# Altium schematic symbol library Schlib_Milandr.SchLib: 13 symbols
Pins are listed as number, name and electrical type; pins without a type are passive.

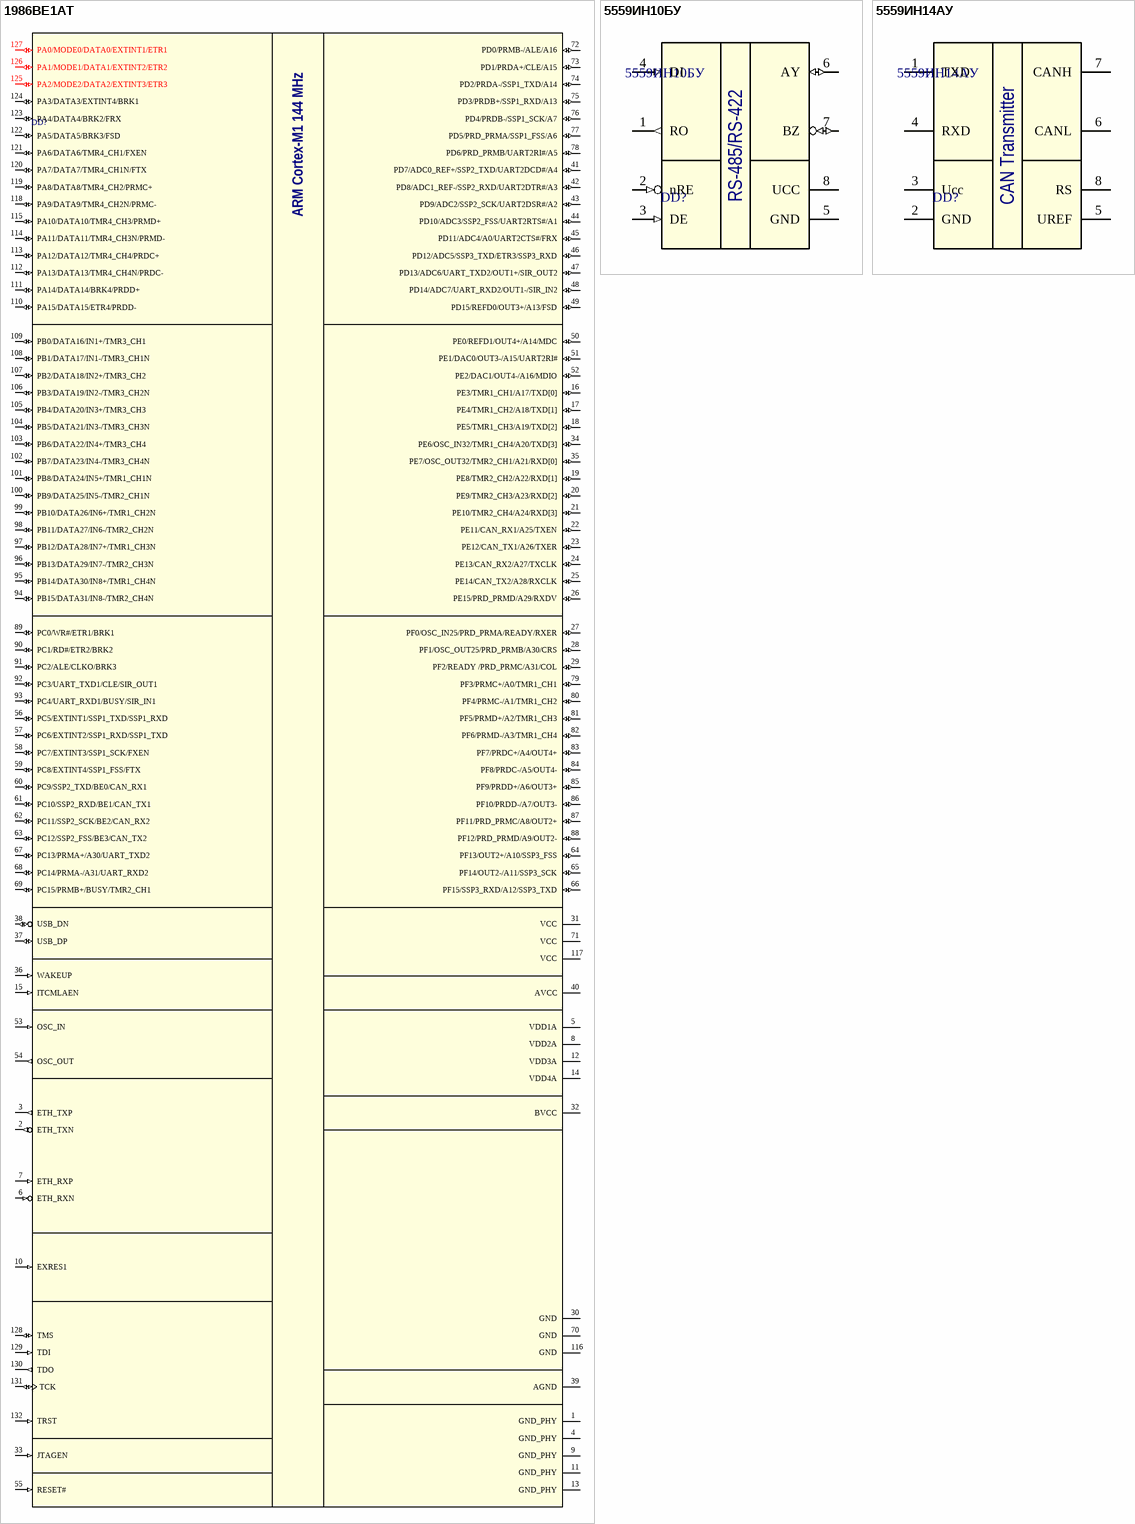
[diagram p0: symbols 1986ВЕ1АТ to 5559ИН14АУ]

## 1986ВЕ1АТ
designator DD?  (value not drawn)
Cortex-M1 based microcontroller, 144 MHz, 48KB RAM, 128KB Flash; Manufacturer: Milandr; Part Number: 1986ВЕ1АТ; Package: 4229.132-3; Author: Sklyarov
footprint 4229.132-3
pins: 1 GND_PHY (power), 2 ETH_TXN (out), 3 ETH_TXP (out), 4 GND_PHY (power), 5 VDD1A (power), 6 ETH_RXN (in), 7 ETH_RXP (in), 8 VDD2A (power), 9 GND_PHY (power), 10 EXRES1 (in), 11 GND_PHY (power), 12 VDD3A (power), 13 GND_PHY (power), 14 VDD4A (power), 15 ITCMLAEN (in), 16 PE3/TMR1_CH1/A17/TXD[0] (io), 17 PE4/TMR1_CH2/A18/TXD[1] (io), 18 PE5/TMR1_CH3/A19/TXD[2] (io), 19 PE8/TMR2_CH2/A22/RXD[1] (io), 20 PE9/TMR2_CH3/A23/RXD[2] (io), 21 PE10/TMR2_CH4/A24/RXD[3] (io), 22 PE11/CAN_RX1/A25/TXEN (io), 23 PE12/CAN_TX1/A26/TXER (io), 24 PE13/CAN_RX2/A27/TXCLK (io), 25 PE14/CAN_TX2/A28/RXCLK (io), 26 PE15/PRD_PRMD/A29/RXDV (io), 27 PF0/OSC_IN25/PRD_PRMA/READY/RXER (io), 28 PF1/OSC_OUT25/PRD_PRMB/A30/CRS (io), 29 PF2/READY /PRD_PRMC/A31/COL (io), 30 GND (power), 31 VCC (power), 32 BVCC (power), 33 JTAGEN (in), 34 PE6/OSC_IN32/TMR1_CH4/A20/TXD[3] (io), 35 PE7/OSC_OUT32/TMR2_CH1/A21/RXD[0] (io), 36 WAKEUP (in), 37 USB_DP (io), 38 USB_DN (io), 39 AGND (power), 40 AVCC (power), 41 PD7/ADC0_REF+/SSP2_TXD/UART2DCD#/A4 (io), 42 PD8/ADC1_REF-/SSP2_RXD/UART2DTR#/A3 (io), 43 PD9/ADC2/SSP2_SCK/UART2DSR#/A2 (io), 44 PD10/ADC3/SSP2_FSS/UART2RTS#/A1 (io), 45 PD11/ADC4/A0/UART2CTS#/FRX (io), 46 PD12/ADC5/SSP3_TXD/ETR3/SSP3_RXD (io), 47 PD13/ADC6/UART_TXD2/OUT1+/SIR_OUT2 (io), 48 PD14/ADC7/UART_RXD2/OUT1-/SIR_IN2 (io), 49 PD15/REFD0/OUT3+/A13/FSD (io), 50 PE0/REFD1/OUT4+/A14/MDC (io), 51 PE1/DAC0/OUT3-/A15/UART2RI# (io), 52 PE2/DAC1/OUT4-/A16/MDIO (io), 53 OSC_IN (in), 54 OSC_OUT (out), 55 RESET# (in), 56 PC5/EXTINT1/SSP1_TXD/SSP1_RXD (io), 57 PC6/EXTINT2/SSP1_RXD/SSP1_TXD (io), 58 PC7/EXTINT3/SSP1_SCK/FXEN (io), 59 PC8/EXTINT4/SSP1_FSS/FTX (io), 60 PC9/SSP2_TXD/BE0/CAN_RX1 (io), 61 PC10/SSP2_RXD/BE1/CAN_TX1 (io), 62 PC11/SSP2_SCK/BE2/CAN_RX2 (io), 63 PC12/SSP2_FSS/BE3/CAN_TX2 (io), 64 PF13/OUT2+/A10/SSP3_FSS (io), 65 PF14/OUT2-/A11/SSP3_SCK (io), 66 PF15/SSP3_RXD/A12/SSP3_TXD (io), 67 PC13/PRMA+/A30/UART_TXD2 (io), 68 PC14/PRMA-/A31/UART_RXD2 (io), 69 PC15/PRMB+/BUSY/TMR2_CH1 (io), 70 GND (power), 71 VCC (power), 72 PD0/PRMB-/ALE/A16 (io), 73 PD1/PRDA+/CLE/A15 (io), 74 PD2/PRDA-/SSP1_TXD/A14 (io), 75 PD3/PRDB+/SSP1_RXD/A13 (io), 76 PD4/PRDB-/SSP1_SCK/A7 (io), 77 PD5/PRD_PRMA/SSP1_FSS/A6 (io), 78 PD6/PRD_PRMB/UART2RI#/A5 (io), 79 PF3/PRMC+/A0/TMR1_CH1 (io), 80 PF4/PRMC-/A1/TMR1_CH2 (io), 81 PF5/PRMD+/A2/TMR1_CH3 (io), 82 PF6/PRMD-/A3/TMR1_CH4 (io), 83 PF7/PRDC+/A4/OUT4+ (io), 84 PF8/PRDC-/A5/OUT4- (io), 85 PF9/PRDD+/A6/OUT3+ (io), 86 PF10/PRDD-/A7/OUT3- (io), 87 PF11/PRD_PRMC/A8/OUT2+ (io), 88 PF12/PRD_PRMD/A9/OUT2- (io), 89 PC0/WR#/ETR1/BRK1 (io), 90 PC1/RD#/ETR2/BRK2 (io), 91 PC2/ALE/CLKO/BRK3 (io), 92 PC3/UART_TXD1/CLE/SIR_OUT1 (io), 93 PC4/UART_RXD1/BUSY/SIR_IN1 (io), 94 PB15/DATA31/IN8-/TMR2_CH4N (io), 95 PB14/DATA30/IN8+/TMR1_CH4N (io), 96 PB13/DATA29/IN7-/TMR2_CH3N (io), 97 PB12/DATA28/IN7+/TMR1_CH3N (io), 98 PB11/DATA27/IN6-/TMR2_CH2N (io), 99 PB10/DATA26/IN6+/TMR1_CH2N (io), 100 PB9/DATA25/IN5-/TMR2_CH1N (io), 101 PB8/DATA24/IN5+/TMR1_CH1N (io), 102 PB7/DATA23/IN4-/TMR3_CH4N (io), 103 PB6/DATA22/IN4+/TMR3_CH4 (io), 104 PB5/DATA21/IN3-/TMR3_CH3N (io), 105 PB4/DATA20/IN3+/TMR3_CH3 (io), 106 PB3/DATA19/IN2-/TMR3_CH2N (io), 107 PB2/DATA18/IN2+/TMR3_CH2 (io), 108 PB1/DATA17/IN1-/TMR3_CH1N (io), 109 PB0/DATA16/IN1+/TMR3_CH1 (io), 110 PA15/DATA15/ETR4/PRDD- (io), 111 PA14/DATA14/BRK4/PRDD+ (io), 112 PA13/DATA13/TMR4_CH4N/PRDC- (io), 113 PA12/DATA12/TMR4_CH4/PRDC+ (io), 114 PA11/DATA11/TMR4_CH3N/PRMD- (io), 115 PA10/DATA10/TMR4_CH3/PRMD+ (io), 116 GND (power), 117 VCC (power), 118 PA9/DATA9/TMR4_CH2N/PRMC- (io), 119 PA8/DATA8/TMR4_CH2/PRMC+ (io), 120 PA7/DATA7/TMR4_CH1N/FTX (io), 121 PA6/DATA6/TMR4_CH1/FXEN (io), 122 PA5/DATA5/BRK3/FSD (io), 123 PA4/DATA4/BRK2/FRX (io), 124 PA3/DATA3/EXTINT4/BRK1 (io), 125 PA2/MODE2/DATA2/EXTINT3/ETR3 (io), 126 PA1/MODE1/DATA1/EXTINT2/ETR2 (io), 127 PA0/MODE0/DATA0/EXTINT1/ETR1 (io), 128 TMS (io), 129 TDI (in), 130 TDO (out), 131 TCK (io), 132 TRST (in)
text: ARM Cortex-M1 144 MHz

## 5559ИН10БУ
designator DD?
RS-485/RS-422 Transmitter; Manufacturer: Milandr; Part Number: 5559ИН10БУ; Package: H02.8-1B; Author: Sklyarov
footprint H02.8-1B
pins: 1 RO (out), 2 nRE (in), 3 DE (in), 4 DI (in), 5 GND (power), 6 AY (io), 7 BZ (io), 8 UCC (power)
text: RS-485/RS-422

## 5559ИН14АУ
designator DD?
CAN Transmitter; Manufacturer: Milandr; Part Number: 5559ИН14АУ; Package: H02.8-1B; Author: Sklyarov
footprint H02.8-1B
pins: 1 TXD, 2 GND, 3 Ucc, 4 RXD, 5 UREF, 6 CANL, 7 CANH, 8 RS

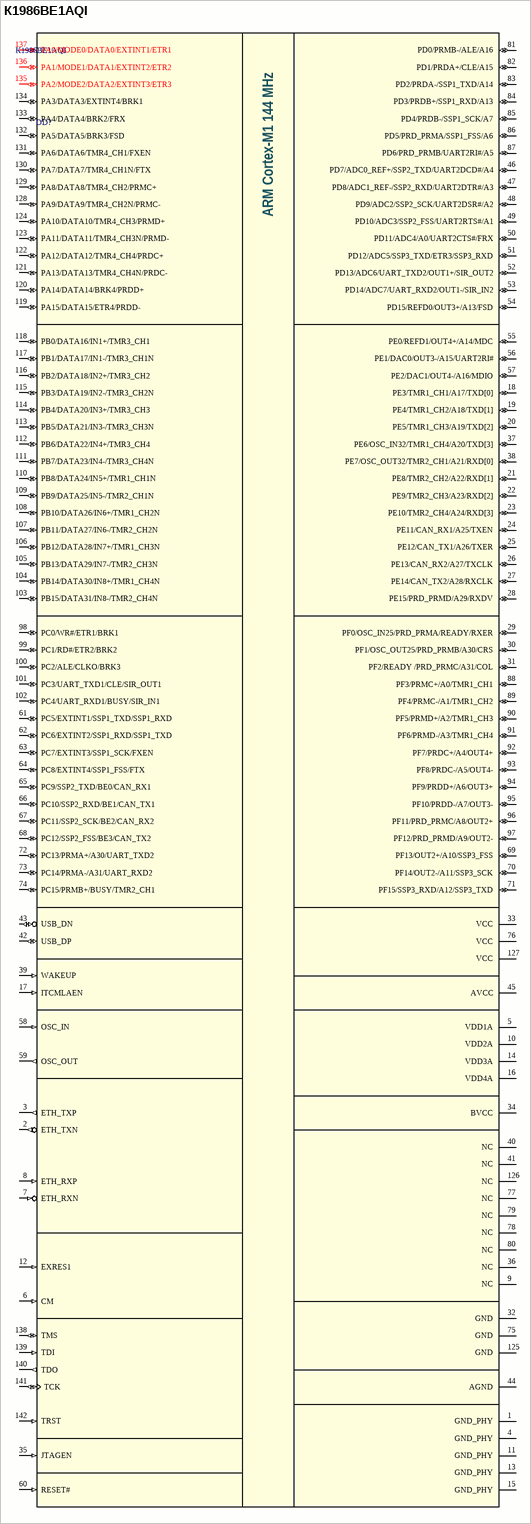
[diagram p1: symbol К1986ВЕ1АQI]

## К1986ВЕ1АQI
designator DD?
Cortex-M1 based microcontroller, 144 MHz, 48KB RAM, 128KB Flash; Manufacturer: Milandr; Part Number: К1986ВЕ1АQI; Package: LQFP-144; Author: Sklyarov
footprint LQFP-144 (TSQFP, 144-Leads, Body 20,00x20,00mm, Pitch 0,50mm, IPC Medium Density)
pins: 1 GND_PHY (power), 2 ETH_TXN (out), 3 ETH_TXP (out), 4 GND_PHY (power), 5 VDD1A (power), 6 CM (in), 7 ETH_RXN (in), 8 ETH_RXP (in), 9 NC (hiz), 10 VDD2A (power), 11 GND_PHY (power), 12 EXRES1 (in), 13 GND_PHY (power), 14 VDD3A (power), 15 GND_PHY (power), 16 VDD4A (power), 17 ITCMLAEN (in), 18 PE3/TMR1_CH1/A17/TXD[0] (io), 19 PE4/TMR1_CH2/A18/TXD[1] (io), 20 PE5/TMR1_CH3/A19/TXD[2] (io), 21 PE8/TMR2_CH2/A22/RXD[1] (io), 22 PE9/TMR2_CH3/A23/RXD[2] (io), 23 PE10/TMR2_CH4/A24/RXD[3] (io), 24 PE11/CAN_RX1/A25/TXEN (io), 25 PE12/CAN_TX1/A26/TXER (io), 26 PE13/CAN_RX2/A27/TXCLK (io), 27 PE14/CAN_TX2/A28/RXCLK (io), 28 PE15/PRD_PRMD/A29/RXDV (io), 29 PF0/OSC_IN25/PRD_PRMA/READY/RXER (io), 30 PF1/OSC_OUT25/PRD_PRMB/A30/CRS (io), 31 PF2/READY /PRD_PRMC/A31/COL (io), 32 GND (power), 33 VCC (power), 34 BVCC (power), 35 JTAGEN (in), 36 NC (hiz), 37 PE6/OSC_IN32/TMR1_CH4/A20/TXD[3] (io), 38 PE7/OSC_OUT32/TMR2_CH1/A21/RXD[0] (io), 39 WAKEUP (in), 40 NC (hiz), 41 NC (hiz), 42 USB_DP (io), 43 USB_DN (io), 44 AGND (power), 45 AVCC (power), 46 PD7/ADC0_REF+/SSP2_TXD/UART2DCD#/A4 (io), 47 PD8/ADC1_REF-/SSP2_RXD/UART2DTR#/A3 (io), 48 PD9/ADC2/SSP2_SCK/UART2DSR#/A2 (io), 49 PD10/ADC3/SSP2_FSS/UART2RTS#/A1 (io), 50 PD11/ADC4/A0/UART2CTS#/FRX (io), 51 PD12/ADC5/SSP3_TXD/ETR3/SSP3_RXD (io), 52 PD13/ADC6/UART_TXD2/OUT1+/SIR_OUT2 (io), 53 PD14/ADC7/UART_RXD2/OUT1-/SIR_IN2 (io), 54 PD15/REFD0/OUT3+/A13/FSD (io), 55 PE0/REFD1/OUT4+/A14/MDC (io), 56 PE1/DAC0/OUT3-/A15/UART2RI# (io), 57 PE2/DAC1/OUT4-/A16/MDIO (io), 58 OSC_IN (in), 59 OSC_OUT (out), 60 RESET# (in), 61 PC5/EXTINT1/SSP1_TXD/SSP1_RXD (io), 62 PC6/EXTINT2/SSP1_RXD/SSP1_TXD (io), 63 PC7/EXTINT3/SSP1_SCK/FXEN (io), 64 PC8/EXTINT4/SSP1_FSS/FTX (io), 65 PC9/SSP2_TXD/BE0/CAN_RX1 (io), 66 PC10/SSP2_RXD/BE1/CAN_TX1 (io), 67 PC11/SSP2_SCK/BE2/CAN_RX2 (io), 68 PC12/SSP2_FSS/BE3/CAN_TX2 (io), 69 PF13/OUT2+/A10/SSP3_FSS (io), 70 PF14/OUT2-/A11/SSP3_SCK (io), 71 PF15/SSP3_RXD/A12/SSP3_TXD (io), 72 PC13/PRMA+/A30/UART_TXD2 (io), 73 PC14/PRMA-/A31/UART_RXD2 (io), 74 PC15/PRMB+/BUSY/TMR2_CH1 (io), 75 GND (power), 76 VCC (power), 77 NC (hiz), 78 NC (hiz), 79 NC (hiz), 80 NC (hiz), 81 PD0/PRMB-/ALE/A16 (io), 82 PD1/PRDA+/CLE/A15 (io), 83 PD2/PRDA-/SSP1_TXD/A14 (io), 84 PD3/PRDB+/SSP1_RXD/A13 (io), 85 PD4/PRDB-/SSP1_SCK/A7 (io), 86 PD5/PRD_PRMA/SSP1_FSS/A6 (io), 87 PD6/PRD_PRMB/UART2RI#/A5 (io), 88 PF3/PRMC+/A0/TMR1_CH1 (io), 89 PF4/PRMC-/A1/TMR1_CH2 (io), 90 PF5/PRMD+/A2/TMR1_CH3 (io), 91 PF6/PRMD-/A3/TMR1_CH4 (io), 92 PF7/PRDC+/A4/OUT4+ (io), 93 PF8/PRDC-/A5/OUT4- (io), 94 PF9/PRDD+/A6/OUT3+ (io), 95 PF10/PRDD-/A7/OUT3- (io), 96 PF11/PRD_PRMC/A8/OUT2+ (io), 97 PF12/PRD_PRMD/A9/OUT2- (io), 98 PC0/WR#/ETR1/BRK1 (io), 99 PC1/RD#/ETR2/BRK2 (io), 100 PC2/ALE/CLKO/BRK3 (io), 101 PC3/UART_TXD1/CLE/SIR_OUT1 (io), 102 PC4/UART_RXD1/BUSY/SIR_IN1 (io), 103 PB15/DATA31/IN8-/TMR2_CH4N (io), 104 PB14/DATA30/IN8+/TMR1_CH4N (io), 105 PB13/DATA29/IN7-/TMR2_CH3N (io), 106 PB12/DATA28/IN7+/TMR1_CH3N (io), 107 PB11/DATA27/IN6-/TMR2_CH2N (io), 108 PB10/DATA26/IN6+/TMR1_CH2N (io), 109 PB9/DATA25/IN5-/TMR2_CH1N (io), 110 PB8/DATA24/IN5+/TMR1_CH1N (io), 111 PB7/DATA23/IN4-/TMR3_CH4N (io), 112 PB6/DATA22/IN4+/TMR3_CH4 (io), 113 PB5/DATA21/IN3-/TMR3_CH3N (io), 114 PB4/DATA20/IN3+/TMR3_CH3 (io), 115 PB3/DATA19/IN2-/TMR3_CH2N (io), 116 PB2/DATA18/IN2+/TMR3_CH2 (io), 117 PB1/DATA17/IN1-/TMR3_CH1N (io), 118 PB0/DATA16/IN1+/TMR3_CH1 (io), 119 PA15/DATA15/ETR4/PRDD- (io), 120 PA14/DATA14/BRK4/PRDD+ (io), 121 PA13/DATA13/TMR4_CH4N/PRDC- (io), 122 PA12/DATA12/TMR4_CH4/PRDC+ (io), 123 PA11/DATA11/TMR4_CH3N/PRMD- (io), 124 PA10/DATA10/TMR4_CH3/PRMD+ (io), 125 GND (power), 126 NC (hiz), 127 VCC (power), 128 PA9/DATA9/TMR4_CH2N/PRMC- (io), 129 PA8/DATA8/TMR4_CH2/PRMC+ (io), 130 PA7/DATA7/TMR4_CH1N/FTX (io), 131 PA6/DATA6/TMR4_CH1/FXEN (io), 132 PA5/DATA5/BRK3/FSD (io), 133 PA4/DATA4/BRK2/FRX (io), 134 PA3/DATA3/EXTINT4/BRK1 (io), 135 PA2/MODE2/DATA2/EXTINT3/ETR3 (io), 136 PA1/MODE1/DATA1/EXTINT2/ETR2 (io), 137 PA0/MODE0/DATA0/EXTINT1/ETR1 (io), 138 TMS (io), 139 TDI (in), 140 TDO (out), 141 TCK (io), 142 TRST (in)
text: ARM Cortex-M1 144 MHz

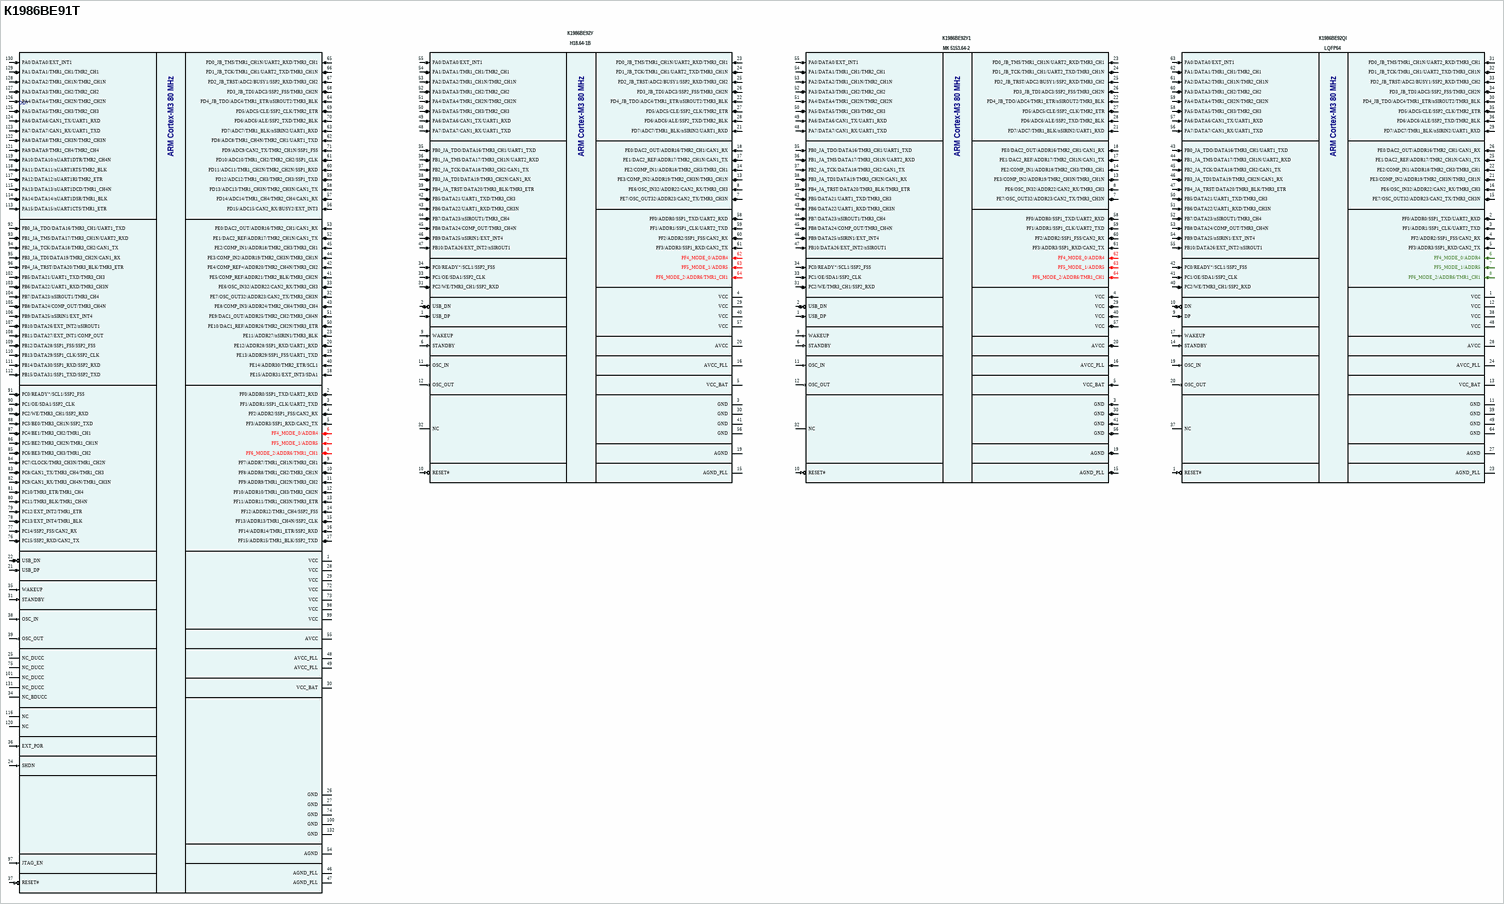
[diagram p2: symbol К1986ВЕ91Т]

## К1986ВЕ91Т
designator DD?  (value not drawn)
Cortex-M3 based microcontroller, 80 MHz, 32KB RAM, 128KB Flash; Manufacturer: Milandr; Part Number: К1986ВЕ91Т; Package: 4229.132-3; Author: Sklyarov
footprint 4229.132-3
pins: 1 VCC (power), 1 USB_DP (io), 1 USB_DP (io), 1 RESET# (in), 1 VCC (power), 2 PF0/ADDR0/SSP1_TXD/UART2_RXD (io), 2 USB_DN (io), 2 USB_DN (io), 2 PF0/ADDR0/SSP1_TXD/UART2_RXD (io), 3 PF1/ADDR1/SSP1_CLK/UART2_TXD (io), 3 GND (power), 3 GND (io), 3 PF1/ADDR1/SSP1_CLK/UART2_TXD (io), 4 PF2/ADDR2/SSP1_FSS/CAN2_RX (io), 4 VCC (power), 4 VCC (io), 4 PF2/ADDR2/SSP1_FSS/CAN2_RX (io), 5 PF3/ADDR3/SSP1_RXD/CAN2_TX (io), 5 VCC_BAT (power), 5 VCC_BAT (io), 5 PF3/ADDR3/SSP1_RXD/CAN2_TX (io), 6 PF4_MODE_0/ADDR4 (io), 6 STANDBY (in), 6 STANDBY (in), 6 PF4_MODE_0/ADDR4 (io), 7 PF5_MODE_1/ADDR5 (io), 7 PE7/OSC_OUT32/ADDR23/CAN2_TX/TMR3_CH3N (io), 7 PE7/OSC_OUT32/ADDR23/CAN2_TX/TMR3_CH3N (io), 7 PF5_MODE_1/ADDR5 (io), 8 PF6_MODE_2/ADDR6/TMR1_CH1 (io), 8 PE6/OSC_IN32/ADDR22/CAN2_RX/TMR3_CH3 (io), 8 PE6/OSC_IN32/ADDR22/CAN2_RX/TMR3_CH3 (io), 8 PF6_MODE_2/ADDR6/TMR1_CH1 (io), 9 PF7/ADDR7/TMR1_CH1N/TMR3_CH1 (io), 9 WAKEUP (in), 9 WAKEUP (in), 9 DP (io), 10 PF8/ADDR8/TMR1_CH2/TMR3_CH1N (io), 10 RESET# (in), 10 RESET# (in), 10 DN (io), 11 PF9/ADDR9/TMR1_CH2N/TMR3_CH2 (io), 11 OSC_IN (in), 11 OSC_IN (in), 11 GND (power), 12 PF10/ADDR10/TMR1_CH3/TMR3_CH2N (io), 12 OSC_OUT (out), 12 OSC_OUT (out), 12 VCC (power), 13 PF11/ADDR11/TMR1_CH3N/TMR3_ETR (io), 13 PE3/COMP_IN2/ADDR19/TMR2_CH3N/TMR3_CH1N (io), 13 PE3/COMP_IN2/ADDR19/TMR2_CH3N/TMR3_CH1N (io), 13 VCC_BAT (power), 14 PF12/ADDR12/TMR1_CH4/SSP2_FSS (io), 14 PE2/COMP_IN1/ADDR18/TMR2_CH3/TMR3_CH1 (io), 14 PE2/COMP_IN1/ADDR18/TMR2_CH3/TMR3_CH1 (io), 14 STANDBY (in), 15 PF13/ADDR13/TMR1_CH4N/SSP2_CLK (io), 15 AGND_PLL (power), 15 AGND_PLL (io), 15 PE7/OSC_OUT32/ADDR23/CAN2_TX/TMR3_CH3N (io), 16 PF14/ADDR14/TMR1_ETR/SSP2_RXD (io), 16 AVCC_PLL (power), 16 AVCC_PLL (io), 16 PE6/OSC_IN32/ADDR22/CAN2_RX/TMR3_CH3 (io), 17 PF15/ADDR15/TMR1_BLK/SSP2_TXD (io), 17 PE1/DAC2_REF/ADDR17/TMR2_CH1N/CAN1_TX (io), 17 PE1/DAC2_REF/ADDR17/TMR2_CH1N/CAN1_TX (io), 17 WAKEUP (in), 18 PE15/ADDR31/EXT_INT3/SDA1 (io), 18 PE0/DAC2_OUT/ADDR16/TMR2_CH1/CAN1_RX (io), 18 PE0/DAC2_OUT/ADDR16/TMR2_CH1/CAN1_RX (io), 19 PE13/ADDR29/SSP1_FSS/UART1_TXD (io), 19 AGND (power), 19 AGND (io), 19 OSC_IN (in), 20 PE12/ADDR28/SSP1_RXD/UART1_RXD (io), 20 AVCC (power), 20 AVCC (io), 20 OSC_OUT (out), 21 USB_DP (io), 21 PD7/ADC7/TMR1_BLK/nSIRIN2/UART1_RXD (io), 21 PD7/ADC7/TMR1_BLK/nSIRIN2/UART1_RXD (io), 21 PE3/COMP_IN2/ADDR19/TMR2_CH3N/TMR3_CH1N (io), 22 USB_DN (io), 22 PD4_JB_TDO/ADC4/TMR1_ETR/nSIROUT2/TMR3_BLK (io), 22 PD4_JB_TDO/ADC4/TMR1_ETR/nSIROUT2/TMR3_BLK (io), 22 PE2/COMP_IN1/ADDR18/TMR2_CH3/TMR3_CH1 (io), 23 PE11/ADDR27/nSIRIN1/TMR3_BLK (io), 23 PD0_JB_TMS/TMR1_CH1N/UART2_RXD/TMR3_CH1 (io), 23 PD0_JB_TMS/TMR1_CH1N/UART2_RXD/TMR3_CH1 (io), 23 AGND_PLL (power), 24 SHDN (in), 24 PD1_JB_TCK/TMR1_CH1/UART2_TXD/TMR3_CH1N (io), 24 PD1_JB_TCK/TMR1_CH1/UART2_TXD/TMR3_CH1N (io), 24 AVCC_PLL (power), 25 NC_DUCC (hiz), 25 PD2_JB_TRST/ADC2/BUSY1/SSP2_RXD/TMR3_CH2 (io), 25 PD2_JB_TRST/ADC2/BUSY1/SSP2_RXD/TMR3_CH2 (io), 25 PE1/DAC2_REF/ADDR17/TMR2_CH1N/CAN1_TX (io), 26 GND (power), 26 PD3_JB_TDI/ADC3/SSP2_FSS/TMR3_CH2N (io), 26 PD3_JB_TDI/ADC3/SSP2_FSS/TMR3_CH2N (io), 26 PE0/DAC2_OUT/ADDR16/TMR2_CH1/CAN1_RX (io), 27 GND (power), 27 PD5/ADC5/CLE/SSP2_CLK/TMR2_ETR (io), 27 PD5/ADC5/CLE/SSP2_CLK/TMR2_ETR (io), 27 AGND (power), 28 VCC (power), 28 PD6/ADC6/ALE/SSP2_TXD/TMR2_BLK (io), 28 PD6/ADC6/ALE/SSP2_TXD/TMR2_BLK (io), 28 AVCC (power), 29 VCC (power), 29 VCC (power), 29 VCC (io), 29 PD7/ADC7/TMR1_BLK/nSIRIN2/UART1_RXD (io), 30 VCC_BAT (power), 30 GND (power), 30 GND (io), 30 PD4_JB_TDO/ADC4/TMR1_ETR/nSIROUT2/TMR3_BLK (io), 31 STANDBY (in), 31 PC2/WE/TMR3_CH1/SSP2_RXD (io), 31 PC2/WE/TMR3_CH1/SSP2_RXD (io), 31 PD0_JB_TMS/TMR1_CH1N/UART2_RXD/TMR3_CH1 (io), 32 PE7/OSC_OUT32/ADDR23/CAN2_TX/TMR3_CH3N (io), 32 NC (hiz), 32 NC (hiz), 32 PD1_JB_TCK/TMR1_CH1/UART2_TXD/TMR3_CH1N (io), 33 PE6/OSC_IN32/ADDR22/CAN2_RX/TMR3_CH3 (io), 33 PC1/OE/SDA1/SSP2_CLK (io), 33 PC1/OE/SDA1/SSP2_CLK (io), 33 PD2_JB_TRST/ADC2/BUSY1/SSP2_RXD/TMR3_CH2 (io), 34 NC_BDUCC (hiz), 34 PC0/READY*/SCL1/SSP2_FSS (io), 34 PC0/READY*/SCL1/SSP2_FSS (io), 34 PD3_JB_TDI/ADC3/SSP2_FSS/TMR3_CH2N (io), 35 WAKEUP (in), 35 PB0_JA_TDO/DATA16/TMR3_CH1/UART1_TXD (io), 35 PB0_JA_TDO/DATA16/TMR3_CH1/UART1_TXD (io), 35 PD5/ADC5/CLE/SSP2_CLK/TMR2_ETR (io), 36 EXT_POR (in), 36 PB1_JA_TMS/DATA17/TMR3_CH1N/UART2_RXD (io), 36 PB1_JA_TMS/DATA17/TMR3_CH1N/UART2_RXD (io), 36 PD6/ADC6/ALE/SSP2_TXD/TMR2_BLK (io), 37 RESET# (in), 37 PB2_JA_TCK/DATA18/TMR3_CH2/CAN1_TX (io), 37 PB2_JA_TCK/DATA18/TMR3_CH2/CAN1_TX (io), 37 NC (hiz), 38 OSC_IN (in), 38 PB3_JA_TDI/DATA19/TMR3_CH2N/CAN1_RX (io), 38 PB3_JA_TDI/DATA19/TMR3_CH2N/CAN1_RX (io), 38 VCC (power), 39 OSC_OUT (out), 39 PB4_JA_TRST/DATA20/TMR3_BLK/TMR3_ETR (io), 39 PB4_JA_TRST/DATA20/TMR3_BLK/TMR3_ETR (io), 39 GND (power), 40 PE14/ADDR30/TMR2_ETR/SCL1 (io), 40 VCC (power), 40 VCC (io), 40 PC2/WE/TMR3_CH1/SSP2_RXD (io), 41 PE5/COMP_REF/ADDR21/TMR2_BLK/TMR3_CH2N (io), 41 GND (power), 41 GND (io), 41 PC1/OE/SDA1/SSP2_CLK (io), 42 PE4/COMP_REF+/ADDR20/TMR2_CH4N/TMR3_CH2 (io), 42 PB5/DATA21/UART1_TXD/TMR3_CH3 (io), 42 PB5/DATA21/UART1_TXD/TMR3_CH3 (io), 42 PC0/READY*/SCL1/SSP2_FSS (io), 43 PE8/COMP_IN3/ADDR24/TMR2_CH4/TMR3_CH4 (io), 43 PB6/DATA22/UART1_RXD/TMR3_CH3N (io), 43 PB6/DATA22/UART1_RXD/TMR3_CH3N (io), 43 PB0_JA_TDO/DATA16/TMR3_CH1/UART1_TXD (io), 44 PE3/COMP_IN2/ADDR19/TMR2_CH3N/TMR3_CH1N (io), 44 PB7/DATA23/nSIROUT1/TMR3_CH4 (io), 44 PB7/DATA23/nSIROUT1/TMR3_CH4 (io), 44 PB1_JA_TMS/DATA17/TMR3_CH1N/UART2_RXD (io), 45 PE2/COMP_IN1/ADDR18/TMR2_CH3/TMR3_CH1 (io), 45 PB8/DATA24/COMP_OUT/TMR3_CH4N (io), 45 PB8/DATA24/COMP_OUT/TMR3_CH4N (io), 45 PB2_JA_TCK/DATA18/TMR3_CH2/CAN1_TX (io), 46 AGND_PLL (power), 46 PB9/DATA25/nSIRIN1/EXT_INT4 (io), 46 PB9/DATA25/nSIRIN1/EXT_INT4 (io), 46 PB3_JA_TDI/DATA19/TMR3_CH2N/CAN1_RX (io), 47 AGND_PLL (power), 47 PB10/DATA26/EXT_INT2/nSIROUT1 (io), 47 PB10/DATA26/EXT_INT2/nSIROUT1 (io), 47 PB4_JA_TRST/DATA20/TMR3_BLK/TMR3_ETR (io), 48 AVCC_PLL (power), 48 PA7/DATA7/CAN1_RX/UART1_TXD (io), 48 PA7/DATA7/CAN1_RX/UART1_TXD (io), 48 VCC (power), 49 AVCC_PLL (power), 49 PA6/DATA6/CAN1_TX/UART1_RXD (io), 49 PA6/DATA6/CAN1_TX/UART1_RXD (io), 49 GND (power), 50 PE10/DAC1_REF/ADDR26/TMR2_CH2N/TMR3_ETR (io), 50 PA5/DATA5/TMR1_CH3/TMR2_CH3 (io), 50 PA5/DATA5/TMR1_CH3/TMR2_CH3 (io), 50 PB5/DATA21/UART1_TXD/TMR3_CH3 (io), 51 PE9/DAC1_OUT/ADDR25/TMR2_CH2/TMR3_CH4N (io), 51 PA4/DATA4/TMR1_CH2N/TMR2_CH2N (io), 51 PA4/DATA4/TMR1_CH2N/TMR2_CH2N (io), 51 PB6/DATA22/UART1_RXD/TMR3_CH3N (io), 52 PE1/DAC2_REF/ADDR17/TMR2_CH1N/CAN1_TX (io), 52 PA3/DATA3/TMR1_CH2/TMR2_CH2 (io), 52 PA3/DATA3/TMR1_CH2/TMR2_CH2 (io), 52 PB7/DATA23/nSIROUT1/TMR3_CH4 (io), 53 PE0/DAC2_OUT/ADDR16/TMR2_CH1/CAN1_RX (io), 53 PA2/DATA2/TMR1_CH1N/TMR2_CH1N (io), 53 PA2/DATA2/TMR1_CH1N/TMR2_CH1N (io), 53 PB8/DATA24/COMP_OUT/TMR3_CH4N (io), 54 AGND (power), 54 PA1/DATA1/TMR1_CH1/TMR2_CH1 (io), 54 PA1/DATA1/TMR1_CH1/TMR2_CH1 (io), 54 PB9/DATA25/nSIRIN1/EXT_INT4 (io), 55 AVCC (power), 55 PA0/DATA0/EXT_INT1 (io), 55 PA0/DATA0/EXT_INT1 (io), 55 PB10/DATA26/EXT_INT2/nSIROUT1 (io), 56 PD15/ADC15/CAN2_RX/BUSY2/EXT_INT3 (io), 56 GND (power), 56 GND (io), 56 PA7/DATA7/CAN1_RX/UART1_TXD (io), 57 PD14/ADC14/TMR1_CH4/TMR2_CH4/CAN1_RX (io), 57 VCC (power), 57 VCC (io), 57 PA6/DATA6/CAN1_TX/UART1_RXD (io), 58 PD13/ADC13/TMR1_CH3N/TMR2_CH3N/CAN1_TX (io), 58 PF0/ADDR0/SSP1_TXD/UART2_RXD (io), 58 PF0/ADDR0/SSP1_TXD/UART2_RXD (io), 58 PA5/DATA5/TMR1_CH3/TMR2_CH3 (io), 59 PD12/ADC12/TMR1_CH3/TMR2_CH3/SSP1_TXD (io), 59 PF1/ADDR1/SSP1_CLK/UART2_TXD (io), 59 PF1/ADDR1/SSP1_CLK/UART2_TXD (io), 59 PA4/DATA4/TMR1_CH2N/TMR2_CH2N (io), 60 PD11/ADC11/TMR1_CH2N/TMR2_CH2N/SSP1_RXD (io), 60 PF2/ADDR2/SSP1_FSS/CAN2_RX (io), 60 PF2/ADDR2/SSP1_FSS/CAN2_RX (io), 60 PA3/DATA3/TMR1_CH2/TMR2_CH2 (io), 61 PD10/ADC10/TMR1_CH2/TMR2_CH2/SSP1_CLK (io), 61 PF3/ADDR3/SSP1_RXD/CAN2_TX (io), 61 PF3/ADDR3/SSP1_RXD/CAN2_TX (io), 61 PA2/DATA2/TMR1_CH1N/TMR2_CH1N (io), 62 PD8/ADC8/TMR1_CH4N/TMR2_CH1/UART1_TXD (io), 62 PF4_MODE_0/ADDR4 (io), 62 PF4_MODE_0/ADDR4 (io), 62 PA1/DATA1/TMR1_CH1/TMR2_CH1 (io), 63 PD7/ADC7/TMR1_BLK/nSIRIN2/UART1_RXD (io), 63 PF5_MODE_1/ADDR5 (io), 63 PF5_MODE_1/ADDR5 (io), 63 PA0/DATA0/EXT_INT1 (io), 64 PD4_JB_TDO/ADC4/TMR1_ETR/nSIROUT2/TMR3_BLK (io), 64 PF6_MODE_2/ADDR6/TMR1_CH1 (io), 64 PF6_MODE_2/ADDR6/TMR1_CH1 (io), 64 GND (power), 65 PD0_JB_TMS/TMR1_CH1N/UART2_RXD/TMR3_CH1 (io), 66 PD1_JB_TCK/TMR1_CH1/UART2_TXD/TMR3_CH1N (io), 67 PD2_JB_TRST/ADC2/BUSY1/SSP2_RXD/TMR3_CH2 (io), 68 PD3_JB_TDI/ADC3/SSP2_FSS/TMR3_CH2N (io), 69 PD5/ADC5/CLE/SSP2_CLK/TMR2_ETR (io), 70 PD6/ADC6/ALE/SSP2_TXD/TMR2_BLK (io), 71 PD9/ADC9/CAN2_TX/TMR2_CH1N/SSP1_FSS (io), 72 VCC (power), 73 VCC (power), 74 GND (power), 75 NC_DUCC (hiz), 76 PC15/SSP2_RXD/CAN2_TX (io), 77 PC14/SSP2_FSS/CAN2_RX (io), 78 PC13/EXT_INT4/TMR1_BLK (io), 79 PC12/EXT_INT2/TMR1_ETR (io), 80 PC11/TMR3_BLK/TMR1_CH4N (io), 81 PC10/TMR3_ETR/TMR1_CH4 (io), 82 PC9/CAN1_RX/TMR3_CH4N/TMR1_CH3N (io), 83 PC8/CAN1_TX/TMR3_CH4/TMR1_CH3 (io), 84 PC7/CLOCK/TMR3_CH3N/TMR1_CH2N (io), 85 PC6/BE3/TMR3_CH3/TMR1_CH2 (io), 86 PC5/BE2/TMR3_CH2N/TMR1_CH1N (io), 87 PC4/BE1/TMR3_CH2/TMR1_CH1 (io), 88 PC3/BE0/TMR3_CH1N/SSP2_TXD (io), 89 PC2/WE/TMR3_CH1/SSP2_RXD (io), 90 PC1/OE/SDA1/SSP2_CLK (io), 91 PC0/READY*/SCL1/SSP2_FSS (io), 92 PB0_JA_TDO/DATA16/TMR3_CH1/UART1_TXD (io), 93 PB1_JA_TMS/DATA17/TMR3_CH1N/UART2_RXD (io), 94 PB2_JA_TCK/DATA18/TMR3_CH2/CAN1_TX (io), 95 PB3_JA_TDI/DATA19/TMR3_CH2N/CAN1_RX (io), 96 PB4_JA_TRST/DATA20/TMR3_BLK/TMR3_ETR (io), 97 JTAG_EN (in), 98 VCC (power), 99 VCC (power), 100 GND (power), 101 NC_DUCC (hiz), 102 PB5/DATA21/UART1_TXD/TMR3_CH3 (io), 103 PB6/DATA22/UART1_RXD/TMR3_CH3N (io), 104 PB7/DATA23/nSIROUT1/TMR3_CH4 (io), 105 PB8/DATA24/COMP_OUT/TMR3_CH4N (io), 106 PB9/DATA25/nSIRIN1/EXT_INT4 (io), 107 PB10/DATA26/EXT_INT2/nSIROUT1 (io), 108 PB11/DATA27/EXT_INT1/COMP_OUT (io), 109 PB12/DATA28/SSP1_FSS/SSP2_FSS (io), 110 PB13/DATA29/SSP1_CLK/SSP2_CLK (io), 111 PB14/DATA30/SSP1_RXD/SSP2_RXD (io), 112 PB15/DATA31/SSP1_TXD/SSP2_TXD (io), 113 PA15/DATA15/nUART1CTS/TMR1_ETR (io), 114 PA14/DATA14/nUART1DSR/TMR1_BLK (io), 115 PA13/DATA13/nUART1DCD/TMR1_CH4N (io), 116 NC (hiz), 117 PA12/DATA12/nUART1RI/TMR2_ETR (io), 118 PA11/DATA11/nUART1RTS/TMR2_BLK (io), 119 PA10/DATA10/nUART1DTR/TMR2_CH4N (io), 120 NC (hiz), 121 PA9/DATA9/TMR1_CH4/TMR2_CH4 (io), 122 PA8/DATA8/TMR1_CH3N/TMR2_CH3N (io), 123 PA7/DATA7/CAN1_RX/UART1_TXD (io), 124 PA6/DATA6/CAN1_TX/UART1_RXD (io), 125 PA5/DATA5/TMR1_CH3/TMR2_CH3 (io), 126 PA4/DATA4/TMR1_CH2N/TMR2_CH2N (io), 127 PA3/DATA3/TMR1_CH2/TMR2_CH2 (io), 128 PA2/DATA2/TMR1_CH1N/TMR2_CH1N (io), 129 PA1/DATA1/TMR1_CH1/TMR2_CH1 (io), 130 PA0/DATA0/EXT_INT1 (io), 131 NC_DUCC (hiz), 132 GND (power)
text: К1986ВЕ92У; К1986ВЕ92У1; К1986ВЕ92QI; H18.64-1В; МК 5153.64-2; LQFP64; ARM Cortex-M3 80 MHz

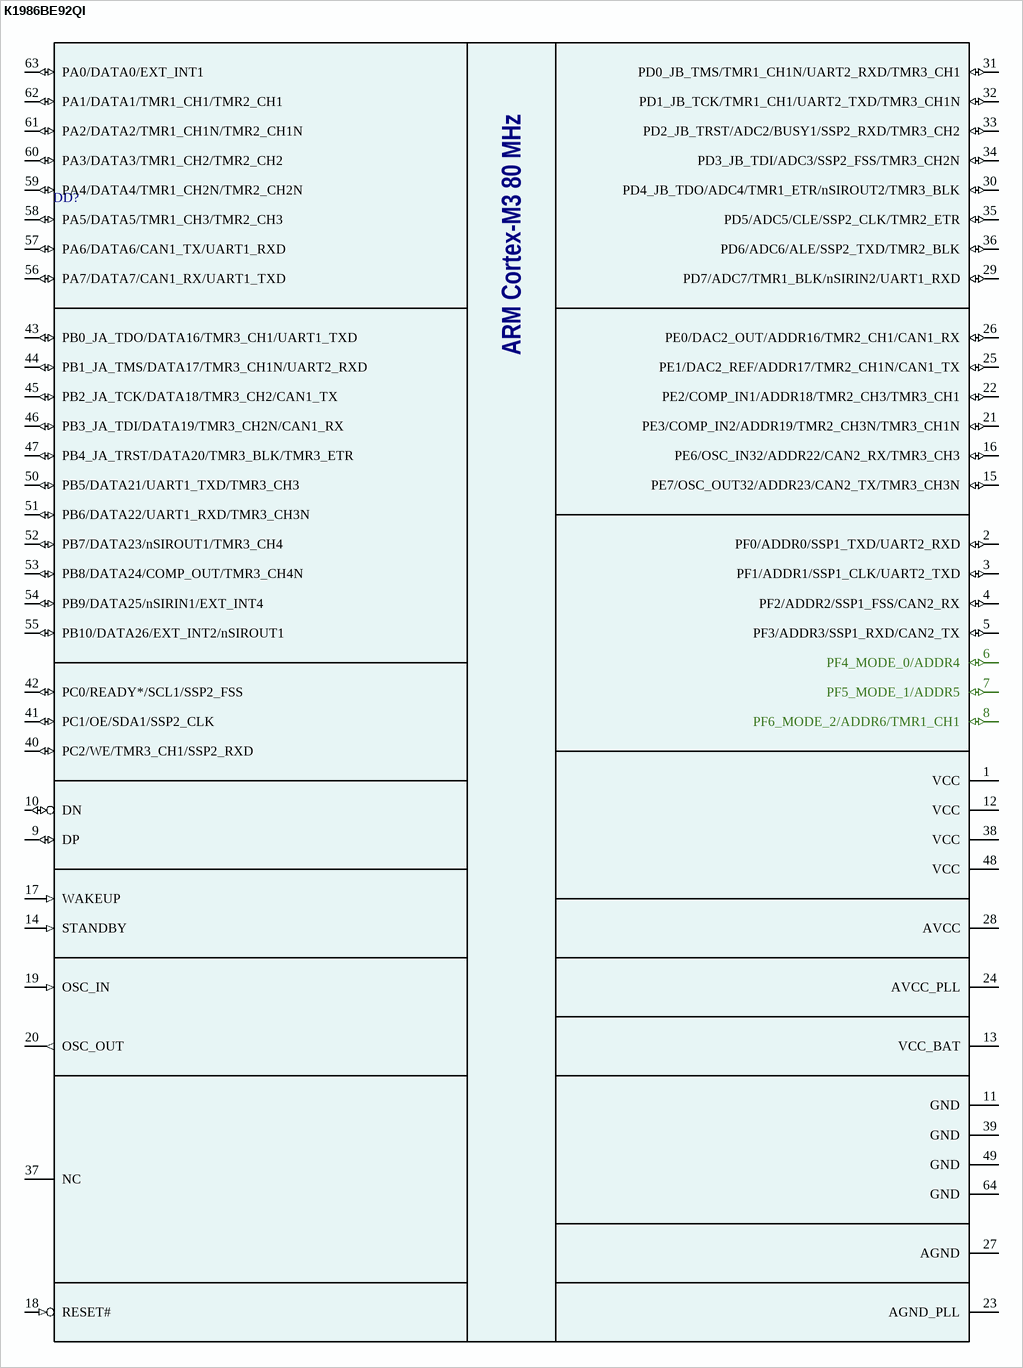
[diagram p3: symbol К1986ВЕ92QI]

## К1986ВЕ92QI
designator DD?  (value not drawn)
Cortex-M3 based microcontroller, 80 MHz, 32KB RAM, 128KB Flash; Manufacturer: Milandr; Part Number: К1986ВЕ92QI; Package: LQFP-64; Author: Sklyarov
footprint LQFP-64 (LQFP-64 package with 0.5mm pitch)
pins: 1 VCC (power), 2 PF0/ADDR0/SSP1_TXD/UART2_RXD (io), 3 PF1/ADDR1/SSP1_CLK/UART2_TXD (io), 4 PF2/ADDR2/SSP1_FSS/CAN2_RX (io), 5 PF3/ADDR3/SSP1_RXD/CAN2_TX (io), 6 PF4_MODE_0/ADDR4 (io), 7 PF5_MODE_1/ADDR5 (io), 8 PF6_MODE_2/ADDR6/TMR1_CH1 (io), 9 DP (io), 10 DN (io), 11 GND (power), 12 VCC (power), 13 VCC_BAT (power), 14 STANDBY (in), 15 PE7/OSC_OUT32/ADDR23/CAN2_TX/TMR3_CH3N (io), 16 PE6/OSC_IN32/ADDR22/CAN2_RX/TMR3_CH3 (io), 17 WAKEUP (in), 18 RESET# (in), 19 OSC_IN (in), 20 OSC_OUT (out), 21 PE3/COMP_IN2/ADDR19/TMR2_CH3N/TMR3_CH1N (io), 22 PE2/COMP_IN1/ADDR18/TMR2_CH3/TMR3_CH1 (io), 23 AGND_PLL (power), 24 AVCC_PLL (power), 25 PE1/DAC2_REF/ADDR17/TMR2_CH1N/CAN1_TX (io), 26 PE0/DAC2_OUT/ADDR16/TMR2_CH1/CAN1_RX (io), 27 AGND (power), 28 AVCC (power), 29 PD7/ADC7/TMR1_BLK/nSIRIN2/UART1_RXD (io), 30 PD4_JB_TDO/ADC4/TMR1_ETR/nSIROUT2/TMR3_BLK (io), 31 PD0_JB_TMS/TMR1_CH1N/UART2_RXD/TMR3_CH1 (io), 32 PD1_JB_TCK/TMR1_CH1/UART2_TXD/TMR3_CH1N (io), 33 PD2_JB_TRST/ADC2/BUSY1/SSP2_RXD/TMR3_CH2 (io), 34 PD3_JB_TDI/ADC3/SSP2_FSS/TMR3_CH2N (io), 35 PD5/ADC5/CLE/SSP2_CLK/TMR2_ETR (io), 36 PD6/ADC6/ALE/SSP2_TXD/TMR2_BLK (io), 37 NC (hiz), 38 VCC (power), 39 GND (power), 40 PC2/WE/TMR3_CH1/SSP2_RXD (io), 41 PC1/OE/SDA1/SSP2_CLK (io), 42 PC0/READY*/SCL1/SSP2_FSS (io), 43 PB0_JA_TDO/DATA16/TMR3_CH1/UART1_TXD (io), 44 PB1_JA_TMS/DATA17/TMR3_CH1N/UART2_RXD (io), 45 PB2_JA_TCK/DATA18/TMR3_CH2/CAN1_TX (io), 46 PB3_JA_TDI/DATA19/TMR3_CH2N/CAN1_RX (io), 47 PB4_JA_TRST/DATA20/TMR3_BLK/TMR3_ETR (io), 48 VCC (power), 49 GND (power), 50 PB5/DATA21/UART1_TXD/TMR3_CH3 (io), 51 PB6/DATA22/UART1_RXD/TMR3_CH3N (io), 52 PB7/DATA23/nSIROUT1/TMR3_CH4 (io), 53 PB8/DATA24/COMP_OUT/TMR3_CH4N (io), 54 PB9/DATA25/nSIRIN1/EXT_INT4 (io), 55 PB10/DATA26/EXT_INT2/nSIROUT1 (io), 56 PA7/DATA7/CAN1_RX/UART1_TXD (io), 57 PA6/DATA6/CAN1_TX/UART1_RXD (io), 58 PA5/DATA5/TMR1_CH3/TMR2_CH3 (io), 59 PA4/DATA4/TMR1_CH2N/TMR2_CH2N (io), 60 PA3/DATA3/TMR1_CH2/TMR2_CH2 (io), 61 PA2/DATA2/TMR1_CH1N/TMR2_CH1N (io), 62 PA1/DATA1/TMR1_CH1/TMR2_CH1 (io), 63 PA0/DATA0/EXT_INT1 (io), 64 GND (power)
text: ARM Cortex-M3 80 MHz

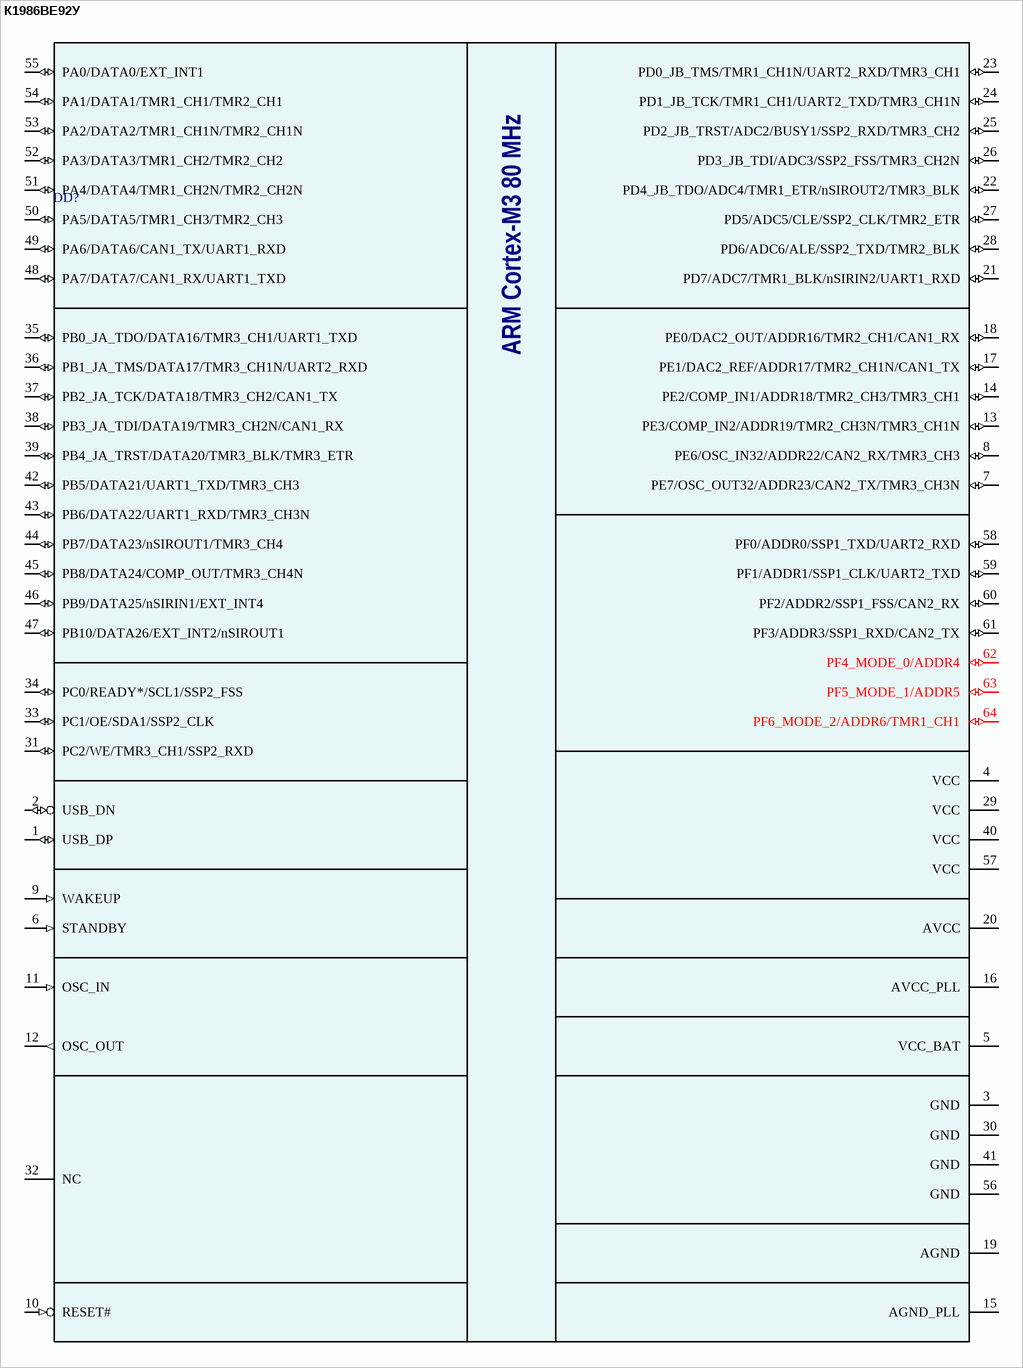
[diagram p4: symbol К1986ВЕ92У]

## К1986ВЕ92У
designator DD?  (value not drawn)
Cortex-M3 based microcontroller, 80 MHz, 32KB RAM, 128KB Flash; Manufacturer: Milandr; Part Number: К1986ВЕ92У; Package: H18.64-1В; Author: Sklyarov
footprint H18.64-1B
pins: 1 USB_DP (io), 2 USB_DN (io), 3 GND (power), 4 VCC (power), 5 VCC_BAT (power), 6 STANDBY (in), 7 PE7/OSC_OUT32/ADDR23/CAN2_TX/TMR3_CH3N (io), 8 PE6/OSC_IN32/ADDR22/CAN2_RX/TMR3_CH3 (io), 9 WAKEUP (in), 10 RESET# (in), 11 OSC_IN (in), 12 OSC_OUT (out), 13 PE3/COMP_IN2/ADDR19/TMR2_CH3N/TMR3_CH1N (io), 14 PE2/COMP_IN1/ADDR18/TMR2_CH3/TMR3_CH1 (io), 15 AGND_PLL (power), 16 AVCC_PLL (power), 17 PE1/DAC2_REF/ADDR17/TMR2_CH1N/CAN1_TX (io), 18 PE0/DAC2_OUT/ADDR16/TMR2_CH1/CAN1_RX (io), 19 AGND (power), 20 AVCC (power), 21 PD7/ADC7/TMR1_BLK/nSIRIN2/UART1_RXD (io), 22 PD4_JB_TDO/ADC4/TMR1_ETR/nSIROUT2/TMR3_BLK (io), 23 PD0_JB_TMS/TMR1_CH1N/UART2_RXD/TMR3_CH1 (io), 24 PD1_JB_TCK/TMR1_CH1/UART2_TXD/TMR3_CH1N (io), 25 PD2_JB_TRST/ADC2/BUSY1/SSP2_RXD/TMR3_CH2 (io), 26 PD3_JB_TDI/ADC3/SSP2_FSS/TMR3_CH2N (io), 27 PD5/ADC5/CLE/SSP2_CLK/TMR2_ETR (io), 28 PD6/ADC6/ALE/SSP2_TXD/TMR2_BLK (io), 29 VCC (power), 30 GND (power), 31 PC2/WE/TMR3_CH1/SSP2_RXD (io), 32 NC (hiz), 33 PC1/OE/SDA1/SSP2_CLK (io), 34 PC0/READY*/SCL1/SSP2_FSS (io), 35 PB0_JA_TDO/DATA16/TMR3_CH1/UART1_TXD (io), 36 PB1_JA_TMS/DATA17/TMR3_CH1N/UART2_RXD (io), 37 PB2_JA_TCK/DATA18/TMR3_CH2/CAN1_TX (io), 38 PB3_JA_TDI/DATA19/TMR3_CH2N/CAN1_RX (io), 39 PB4_JA_TRST/DATA20/TMR3_BLK/TMR3_ETR (io), 40 VCC (power), 41 GND (power), 42 PB5/DATA21/UART1_TXD/TMR3_CH3 (io), 43 PB6/DATA22/UART1_RXD/TMR3_CH3N (io), 44 PB7/DATA23/nSIROUT1/TMR3_CH4 (io), 45 PB8/DATA24/COMP_OUT/TMR3_CH4N (io), 46 PB9/DATA25/nSIRIN1/EXT_INT4 (io), 47 PB10/DATA26/EXT_INT2/nSIROUT1 (io), 48 PA7/DATA7/CAN1_RX/UART1_TXD (io), 49 PA6/DATA6/CAN1_TX/UART1_RXD (io), 50 PA5/DATA5/TMR1_CH3/TMR2_CH3 (io), 51 PA4/DATA4/TMR1_CH2N/TMR2_CH2N (io), 52 PA3/DATA3/TMR1_CH2/TMR2_CH2 (io), 53 PA2/DATA2/TMR1_CH1N/TMR2_CH1N (io), 54 PA1/DATA1/TMR1_CH1/TMR2_CH1 (io), 55 PA0/DATA0/EXT_INT1 (io), 56 GND (power), 57 VCC (power), 58 PF0/ADDR0/SSP1_TXD/UART2_RXD (io), 59 PF1/ADDR1/SSP1_CLK/UART2_TXD (io), 60 PF2/ADDR2/SSP1_FSS/CAN2_RX (io), 61 PF3/ADDR3/SSP1_RXD/CAN2_TX (io), 62 PF4_MODE_0/ADDR4 (io), 63 PF5_MODE_1/ADDR5 (io), 64 PF6_MODE_2/ADDR6/TMR1_CH1 (io)
text: ARM Cortex-M3 80 MHz

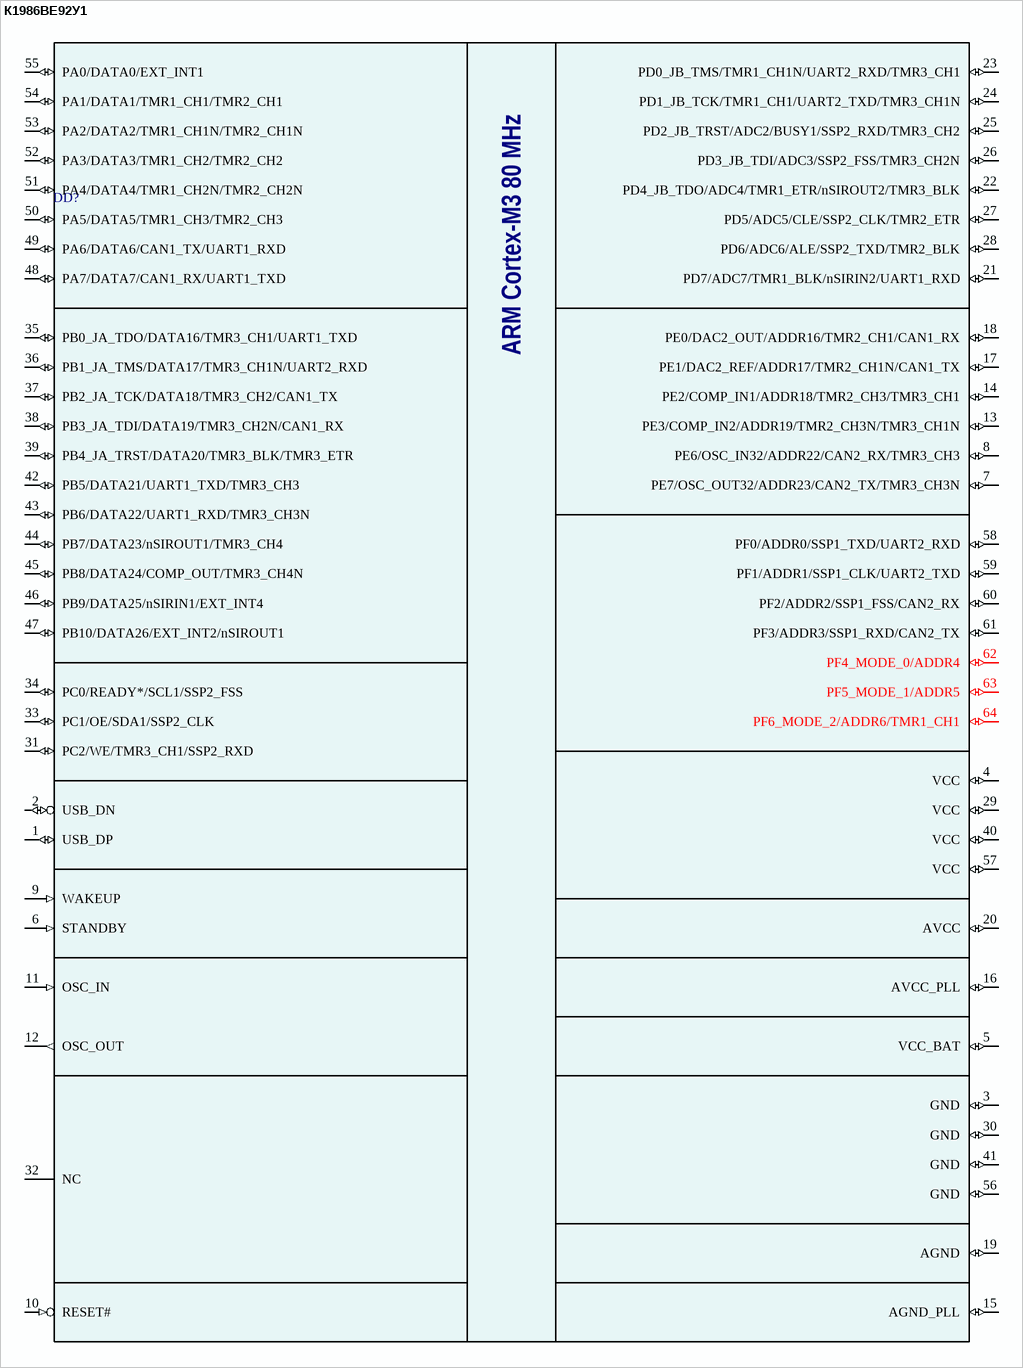
[diagram p5: symbol К1986ВЕ92У1]

## К1986ВЕ92У1
designator DD?  (value not drawn)
Cortex-M3 based microcontroller, 80 MHz, 32KB RAM, 128KB Flash; Manufacturer: Milandr; Part Number: К1986ВЕ92У1; Package: МК 5153.64-2; Author: Sklyarov
footprint H18.64-1B
pins: 1 USB_DP (io), 2 USB_DN (io), 3 GND (io), 4 VCC (io), 5 VCC_BAT (io), 6 STANDBY (in), 7 PE7/OSC_OUT32/ADDR23/CAN2_TX/TMR3_CH3N (io), 8 PE6/OSC_IN32/ADDR22/CAN2_RX/TMR3_CH3 (io), 9 WAKEUP (in), 10 RESET# (in), 11 OSC_IN (in), 12 OSC_OUT (out), 13 PE3/COMP_IN2/ADDR19/TMR2_CH3N/TMR3_CH1N (io), 14 PE2/COMP_IN1/ADDR18/TMR2_CH3/TMR3_CH1 (io), 15 AGND_PLL (io), 16 AVCC_PLL (io), 17 PE1/DAC2_REF/ADDR17/TMR2_CH1N/CAN1_TX (io), 18 PE0/DAC2_OUT/ADDR16/TMR2_CH1/CAN1_RX (io), 19 AGND (io), 20 AVCC (io), 21 PD7/ADC7/TMR1_BLK/nSIRIN2/UART1_RXD (io), 22 PD4_JB_TDO/ADC4/TMR1_ETR/nSIROUT2/TMR3_BLK (io), 23 PD0_JB_TMS/TMR1_CH1N/UART2_RXD/TMR3_CH1 (io), 24 PD1_JB_TCK/TMR1_CH1/UART2_TXD/TMR3_CH1N (io), 25 PD2_JB_TRST/ADC2/BUSY1/SSP2_RXD/TMR3_CH2 (io), 26 PD3_JB_TDI/ADC3/SSP2_FSS/TMR3_CH2N (io), 27 PD5/ADC5/CLE/SSP2_CLK/TMR2_ETR (io), 28 PD6/ADC6/ALE/SSP2_TXD/TMR2_BLK (io), 29 VCC (io), 30 GND (io), 31 PC2/WE/TMR3_CH1/SSP2_RXD (io), 32 NC (hiz), 33 PC1/OE/SDA1/SSP2_CLK (io), 34 PC0/READY*/SCL1/SSP2_FSS (io), 35 PB0_JA_TDO/DATA16/TMR3_CH1/UART1_TXD (io), 36 PB1_JA_TMS/DATA17/TMR3_CH1N/UART2_RXD (io), 37 PB2_JA_TCK/DATA18/TMR3_CH2/CAN1_TX (io), 38 PB3_JA_TDI/DATA19/TMR3_CH2N/CAN1_RX (io), 39 PB4_JA_TRST/DATA20/TMR3_BLK/TMR3_ETR (io), 40 VCC (io), 41 GND (io), 42 PB5/DATA21/UART1_TXD/TMR3_CH3 (io), 43 PB6/DATA22/UART1_RXD/TMR3_CH3N (io), 44 PB7/DATA23/nSIROUT1/TMR3_CH4 (io), 45 PB8/DATA24/COMP_OUT/TMR3_CH4N (io), 46 PB9/DATA25/nSIRIN1/EXT_INT4 (io), 47 PB10/DATA26/EXT_INT2/nSIROUT1 (io), 48 PA7/DATA7/CAN1_RX/UART1_TXD (io), 49 PA6/DATA6/CAN1_TX/UART1_RXD (io), 50 PA5/DATA5/TMR1_CH3/TMR2_CH3 (io), 51 PA4/DATA4/TMR1_CH2N/TMR2_CH2N (io), 52 PA3/DATA3/TMR1_CH2/TMR2_CH2 (io), 53 PA2/DATA2/TMR1_CH1N/TMR2_CH1N (io), 54 PA1/DATA1/TMR1_CH1/TMR2_CH1 (io), 55 PA0/DATA0/EXT_INT1 (io), 56 GND (io), 57 VCC (io), 58 PF0/ADDR0/SSP1_TXD/UART2_RXD (io), 59 PF1/ADDR1/SSP1_CLK/UART2_TXD (io), 60 PF2/ADDR2/SSP1_FSS/CAN2_RX (io), 61 PF3/ADDR3/SSP1_RXD/CAN2_TX (io), 62 PF4_MODE_0/ADDR4 (io), 63 PF5_MODE_1/ADDR5 (io), 64 PF6_MODE_2/ADDR6/TMR1_CH1 (io)
text: ARM Cortex-M3 80 MHz

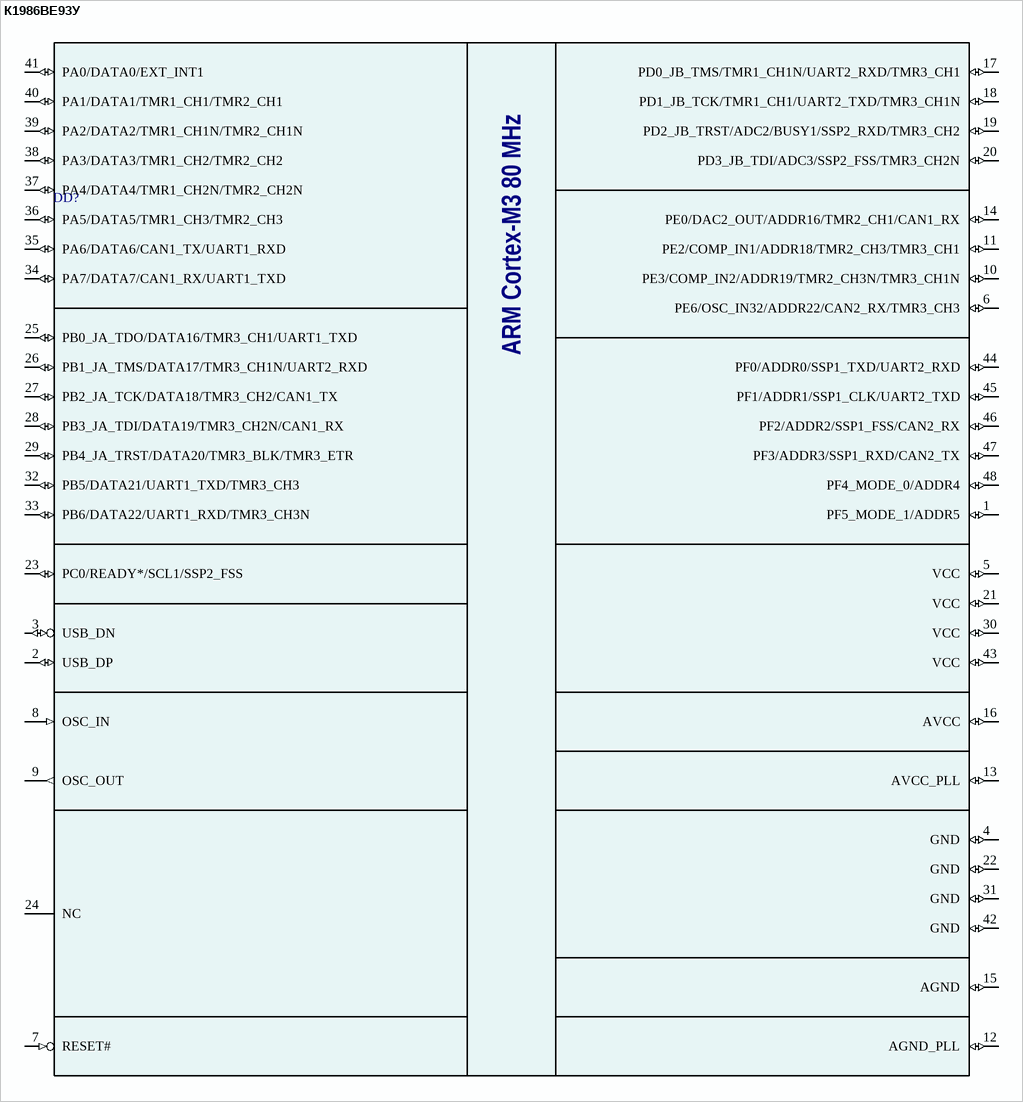
[diagram p6: symbol К1986ВЕ93У]

## К1986ВЕ93У
designator DD?  (value not drawn)
Cortex-M3 based microcontroller, 80 MHz, 32KB RAM, 128KB Flash; Manufacturer: Milandr; Part Number: К1986ВЕ93У; Package: Н16.48-1В; Author: Sklyarov
footprint H16.48-2B
pins: 1 PF5_MODE_1/ADDR5 (io), 2 USB_DP (io), 3 USB_DN (io), 4 GND (io), 5 VCC (io), 6 PE6/OSC_IN32/ADDR22/CAN2_RX/TMR3_CH3 (io), 7 RESET# (in), 8 OSC_IN (in), 9 OSC_OUT (out), 10 PE3/COMP_IN2/ADDR19/TMR2_CH3N/TMR3_CH1N (io), 11 PE2/COMP_IN1/ADDR18/TMR2_CH3/TMR3_CH1 (io), 12 AGND_PLL (io), 13 AVCC_PLL (io), 14 PE0/DAC2_OUT/ADDR16/TMR2_CH1/CAN1_RX (io), 15 AGND (io), 16 AVCC (io), 17 PD0_JB_TMS/TMR1_CH1N/UART2_RXD/TMR3_CH1 (io), 18 PD1_JB_TCK/TMR1_CH1/UART2_TXD/TMR3_CH1N (io), 19 PD2_JB_TRST/ADC2/BUSY1/SSP2_RXD/TMR3_CH2 (io), 20 PD3_JB_TDI/ADC3/SSP2_FSS/TMR3_CH2N (io), 21 VCC (io), 22 GND (io), 23 PC0/READY*/SCL1/SSP2_FSS (io), 24 NC (hiz), 25 PB0_JA_TDO/DATA16/TMR3_CH1/UART1_TXD (io), 26 PB1_JA_TMS/DATA17/TMR3_CH1N/UART2_RXD (io), 27 PB2_JA_TCK/DATA18/TMR3_CH2/CAN1_TX (io), 28 PB3_JA_TDI/DATA19/TMR3_CH2N/CAN1_RX (io), 29 PB4_JA_TRST/DATA20/TMR3_BLK/TMR3_ETR (io), 30 VCC (io), 31 GND (io), 32 PB5/DATA21/UART1_TXD/TMR3_CH3 (io), 33 PB6/DATA22/UART1_RXD/TMR3_CH3N (io), 34 PA7/DATA7/CAN1_RX/UART1_TXD (io), 35 PA6/DATA6/CAN1_TX/UART1_RXD (io), 36 PA5/DATA5/TMR1_CH3/TMR2_CH3 (io), 37 PA4/DATA4/TMR1_CH2N/TMR2_CH2N (io), 38 PA3/DATA3/TMR1_CH2/TMR2_CH2 (io), 39 PA2/DATA2/TMR1_CH1N/TMR2_CH1N (io), 40 PA1/DATA1/TMR1_CH1/TMR2_CH1 (io), 41 PA0/DATA0/EXT_INT1 (io), 42 GND (io), 43 VCC (io), 44 PF0/ADDR0/SSP1_TXD/UART2_RXD (io), 45 PF1/ADDR1/SSP1_CLK/UART2_TXD (io), 46 PF2/ADDR2/SSP1_FSS/CAN2_RX (io), 47 PF3/ADDR3/SSP1_RXD/CAN2_TX (io), 48 PF4_MODE_0/ADDR4 (io)
text: ARM Cortex-M3 80 MHz

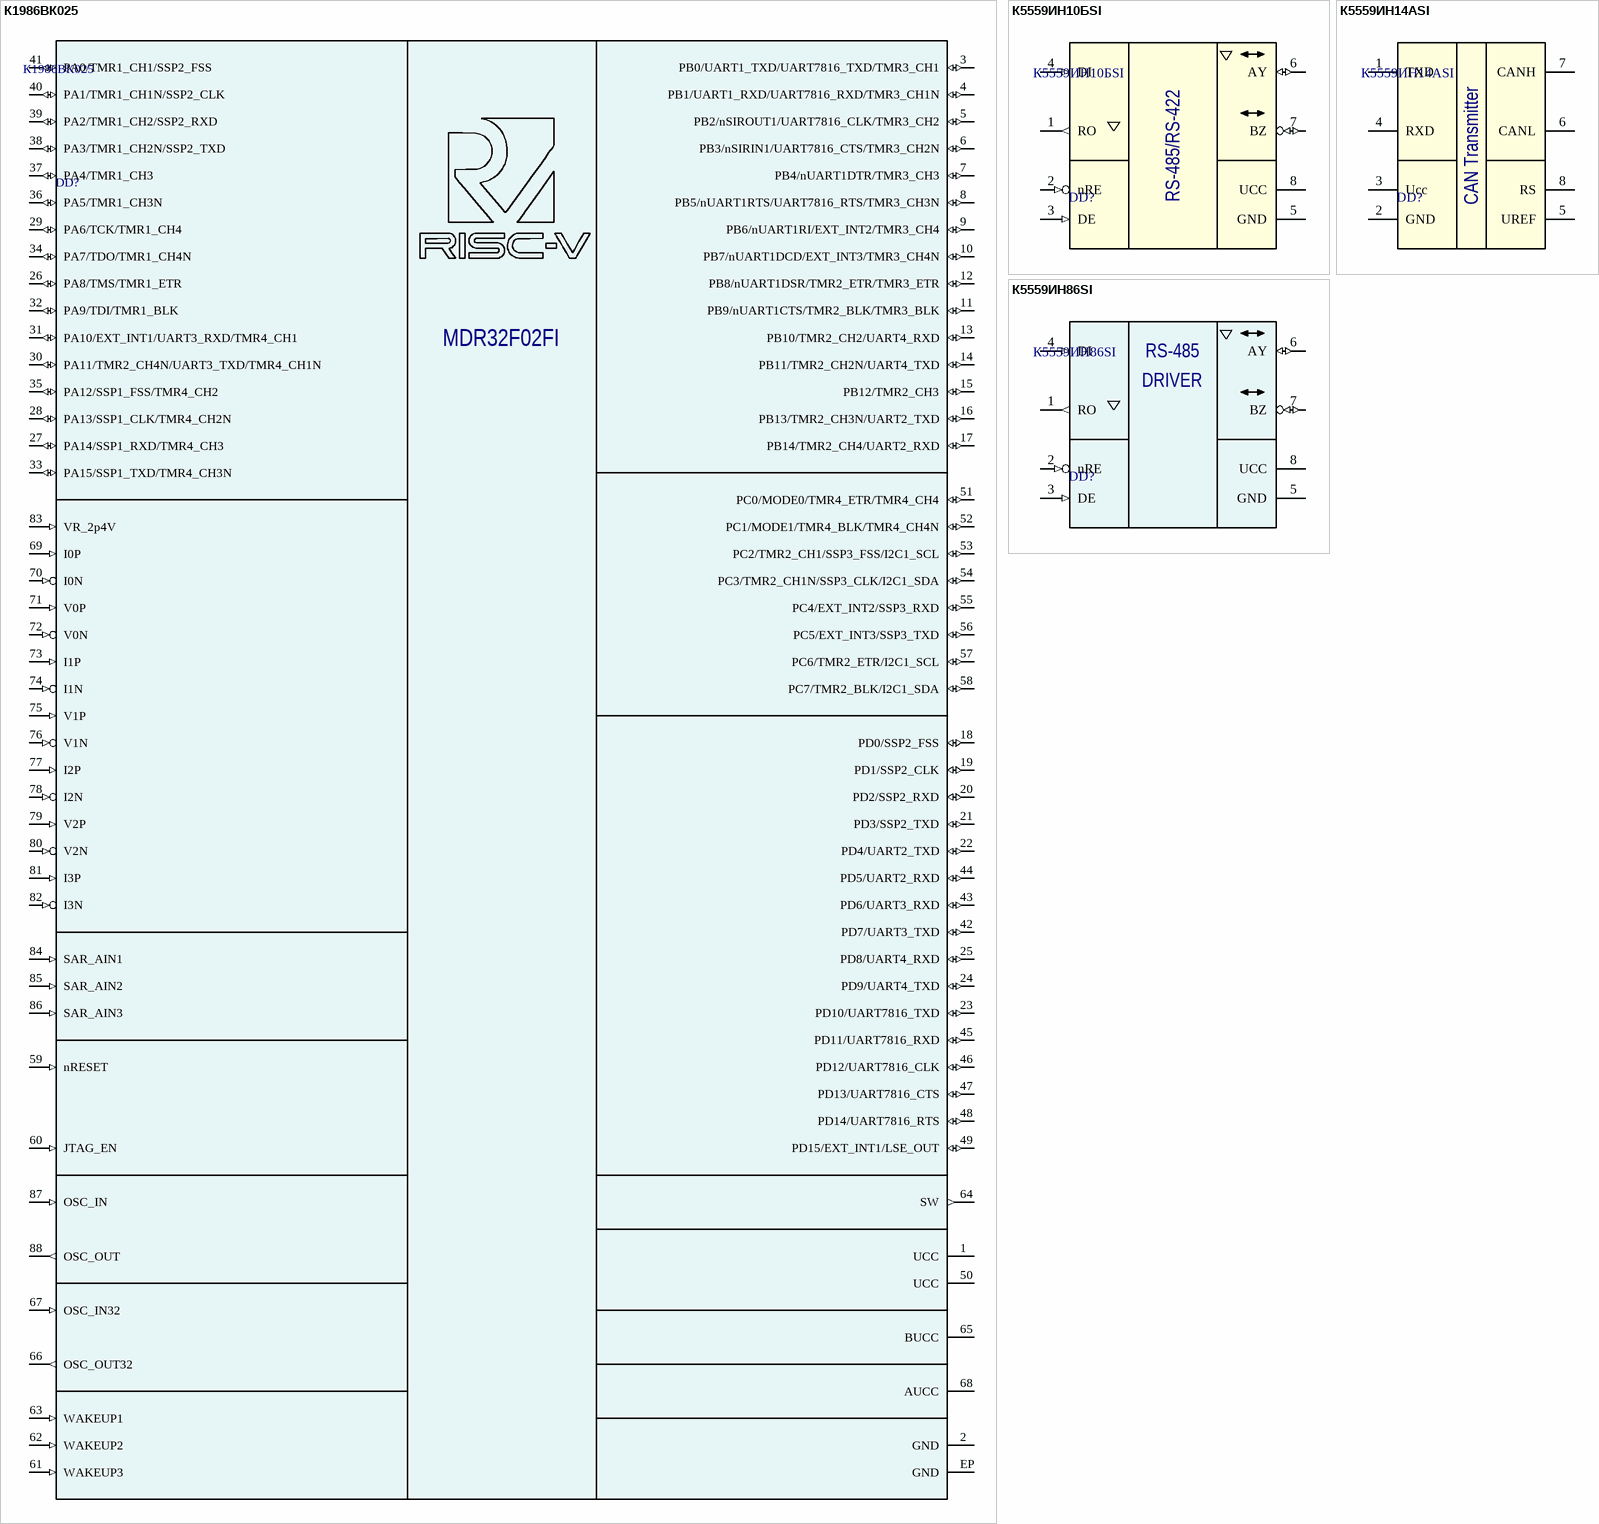
[diagram p7: symbols К1986ВК025 to К5559ИН86SI]

## К1986ВК025
designator DD?
RISC-V based microcontroller, 60 MHz, 112KB RAM, 256KB Flash, 8KB EEPROM, 16 KB OTP; Manufacturer: Milandr; Part Number: К1986ВК025; Package: QFN-88; Author: Sklyarov
footprint QFN88(TICP) (QFN, 88-Leads, Body 10.00x10.00mm, Pitch 0.40mm, Thermal Pad 5.60x5.60mm, IPC Medium Density)
pins: 1 UCC (power), 2 GND (power), 3 PB0/UART1_TXD/UART7816_TXD/TMR3_CH1 (io), 4 PB1/UART1_RXD/UART7816_RXD/TMR3_CH1N (io), 5 PB2/nSIROUT1/UART7816_CLK/TMR3_CH2 (io), 6 PB3/nSIRIN1/UART7816_CTS/TMR3_CH2N (io), 7 PB4/nUART1DTR/TMR3_CH3 (io), 8 PB5/nUART1RTS/UART7816_RTS/TMR3_CH3N (io), 9 PB6/nUART1RI/EXT_INT2/TMR3_CH4 (io), 10 PB7/nUART1DCD/EXT_INT3/TMR3_CH4N (io), 11 PB9/nUART1CTS/TMR2_BLK/TMR3_BLK (io), 12 PB8/nUART1DSR/TMR2_ETR/TMR3_ETR (io), 13 PB10/TMR2_CH2/UART4_RXD (io), 14 PB11/TMR2_CH2N/UART4_TXD (io), 15 PB12/TMR2_CH3 (io), 16 PB13/TMR2_CH3N/UART2_TXD (io), 17 PB14/TMR2_CH4/UART2_RXD (io), 18 PD0/SSP2_FSS (io), 19 PD1/SSP2_CLK (io), 20 PD2/SSP2_RXD (io), 21 PD3/SSP2_TXD (io), 22 PD4/UART2_TXD (io), 23 PD10/UART7816_TXD (io), 24 PD9/UART4_TXD (io), 25 PD8/UART4_RXD (io), 26 PA8/TMS/TMR1_ETR (io), 27 PA14/SSP1_RXD/TMR4_CH3 (io), 28 PA13/SSP1_CLK/TMR4_CH2N (io), 29 PA6/TCK/TMR1_CH4 (io), 30 PA11/TMR2_CH4N/UART3_TXD/TMR4_CH1N (io), 31 PA10/EXT_INT1/UART3_RXD/TMR4_CH1 (io), 32 PA9/TDI/TMR1_BLK (io), 33 PA15/SSP1_TXD/TMR4_CH3N (io), 34 PA7/TDO/TMR1_CH4N (io), 35 PA12/SSP1_FSS/TMR4_CH2 (io), 36 PA5/TMR1_CH3N (io), 37 PA4/TMR1_CH3 (io), 38 PA3/TMR1_CH2N/SSP2_TXD (io), 39 PA2/TMR1_CH2/SSP2_RXD (io), 40 PA1/TMR1_CH1N/SSP2_CLK (io), 41 PA0/TMR1_CH1/SSP2_FSS (io), 42 PD7/UART3_TXD (io), 43 PD6/UART3_RXD (io), 44 PD5/UART2_RXD (io), 45 PD11/UART7816_RXD (io), 46 PD12/UART7816_CLK (io), 47 PD13/UART7816_CTS (io), 48 PD14/UART7816_RTS (io), 49 PD15/EXT_INT1/LSE_OUT (io), 50 UCC (power), 51 PC0/MODE0/TMR4_ETR/TMR4_CH4 (io), 52 PC1/MODE1/TMR4_BLK/TMR4_CH4N (io), 53 PC2/TMR2_CH1/SSP3_FSS/I2C1_SCL (io), 54 PC3/TMR2_CH1N/SSP3_CLK/I2C1_SDA (io), 55 PC4/EXT_INT2/SSP3_RXD (io), 56 PC5/EXT_INT3/SSP3_TXD (io), 57 PC6/TMR2_ETR/I2C1_SCL (io), 58 PC7/TMR2_BLK/I2C1_SDA (io), 59 nRESET (in), 60 JTAG_EN (in), 61 WAKEUP3 (in), 62 WAKEUP2 (in), 63 WAKEUP1 (in), 64 SW (out), 65 BUCC (power), 66 OSC_OUT32 (out), 67 OSC_IN32 (in), 68 AUCC (power), 69 I0P (in), 70 I0N (in), 71 V0P (in), 72 V0N (in), 73 I1P (in), 74 I1N (in), 75 V1P (in), 76 V1N (in), 77 I2P (in), 78 I2N (in), 79 V2P (in), 80 V2N (in), 81 I3P (in), 82 I3N (in), 83 VR_2p4V (in), 84 SAR_AIN1 (in), 85 SAR_AIN2 (in), 86 SAR_AIN3 (in), 87 OSC_IN (in), 88 OSC_OUT (out), EP GND (power)
text: MDR32F02FI

## К5559ИН10БSI
designator DD?
RS-485/RS-422 Transmitter; Manufacturer: Milandr; ТУ: ТСКЯ.431000.001ТУ; Part Number: К5559ИН10БSI; Package: SO-8; Author: Sklyarov
footprint H02.8-1B(with SO-8)
footprint SOIC-8 (SOIC-8 package)
pins: 1 RO (out), 2 nRE (in), 3 DE (in), 4 DI (in), 5 GND (power), 6 AY (io), 7 BZ (io), 8 UCC (power)
text: RS-485/RS-422

## К5559ИН14АSI
designator DD?
CAN Transmitter; Manufacturer: Milandr; ТУ: ТСКЯ.431000.001ТУ; Part Number: К5559ИН14АSI; Package: SO-8; Author: Sklyarov
footprint H02.8-1B(with SO-8)
footprint SOIC-8 (SOIC-8 package)
pins: 1 TXD, 2 GND, 3 Ucc, 4 RXD, 5 UREF, 6 CANL, 7 CANH, 8 RS

## К5559ИН86SI
designator DD?
RS-485 Transmitter; Manufacturer: Milandr; ТУ: ТСКЯ.431000.001ТУ; Part Number: К5559ИН86SI; Package: SO-8; Author: Sklyarov
footprint SOIC-8 (SOIC-8 package)
footprint H02.8-1B(with SO-8)
pins: 1 RO (out), 2 nRE (in), 3 DE (in), 4 DI (in), 5 GND (power), 6 AY (io), 7 BZ (io), 8 UCC (power)
text: RS-485; DRIVER